# Altium schematic symbol library Inductors (VLS).SchLib: 5 symbols
Pins are listed as number, name and electrical type; pins without a type are passive.

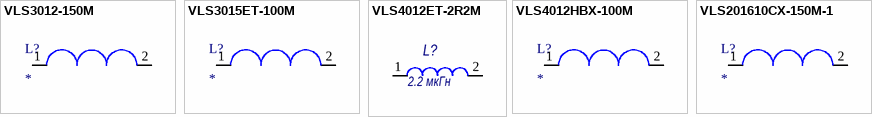
[diagram p0: symbols VLS3012-150M to VLS201610CX-150M-1]

## VLS3012-150M
designator L?
Value: 15uH; Tolerance: ±20%; Saturation current: 1.23A; Temperature range: -40 to +105 °C
footprint Inductor 3x3x1.2mm
pins: 1, 2

## VLS3015ET-100M
designator L?
Value: 10uH; Tolerance: ±20%; Saturation Current: 0.7A; Temperature range: -40 to +105 °C
footprint Inductor 3x3x1.5mm
pins: 1, 2

## VLS4012ET-2R2M
designator L?  value 2.2 мкГн  (hidden comment: VLS4012ET-2R2M)
Tolerance: ±20%; Saturation current: 1.82A; Temperature range: -40 to +105°C; ID: VLS4012ET-2R2M
footprint VLS4012ET
pins: 1, 2

## VLS4012HBX-100M
designator L?
Value: 10uH; Tolerance: ±20%; Saturation current: 1.82A; Temperature range: -40 to +105°C
pins: 1, 2

## VLS201610CX-150M-1
designator L?
Value: 15uH; Tolerance: ±20%; Saturation current: 0.63A; Temperature range: -40 to +105  °C
footprint Inductor 2x1.6x1mm
pins: 1, 2